# EAGLE library part 10 (library crystal)
Monolithic Crystal Filters Source: www.golledge.com
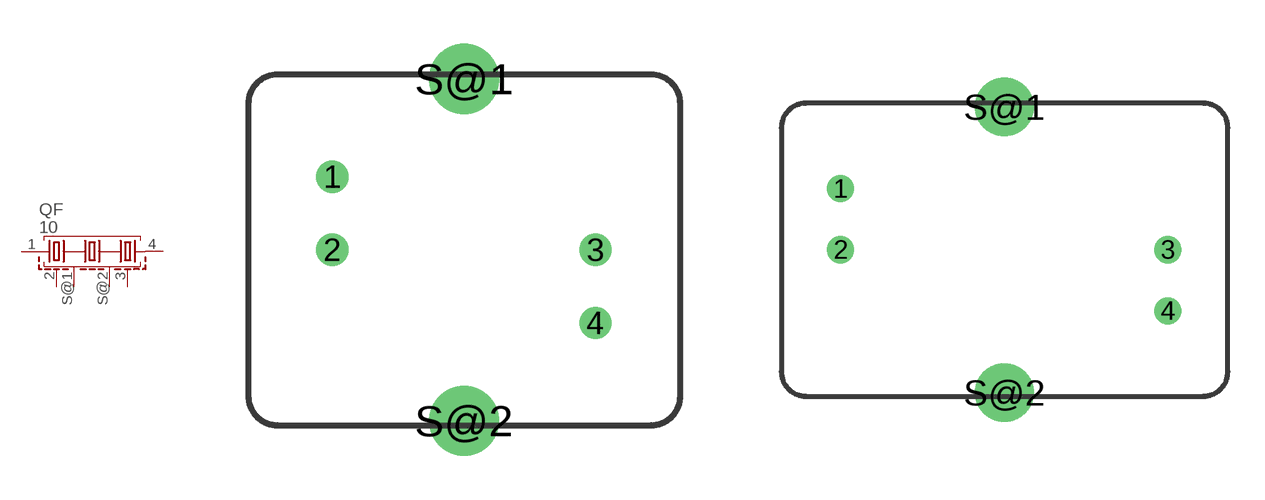
[diagram p2: symbol with the pads of F15/12B; footprints F15/12B, F18/12P]

Designator prefix QF

## 10G7C-12.5KHZ (OC_FARNELL: unknown; OC_NEWARK: unknown)  [F15/12B]
1  1  pas
2  2  pas
3  3  pas
4  4  pas
S@1  S  pas
S@2  S  pas

## 10G7D-12.5KHZ (OC_FARNELL: unknown; OC_NEWARK: unknown)  [F18/12P]
Pads as for F15/12B

## 10G12C-20.0KHZ (OC_FARNELL: unknown; OC_NEWARK: unknown)  [F15/12B]
Pads as for F15/12B

## 10G12D-20.0KHZ (OC_FARNELL: unknown; OC_NEWARK: unknown)  [F18/12P]
Pads as for F15/12B

## 10G15C-25.0KHZ (OC_FARNELL: unknown; OC_NEWARK: unknown)  [F15/12B]
Pads as for F15/12B

## 10G15D-25.0KHZ (OC_FARNELL: unknown; OC_NEWARK: unknown)  [F18/12P]
Pads as for F15/12B

## 10G20C-35.0KHZ (OC_FARNELL: unknown; OC_NEWARK: unknown)  [F15/12B]
Pads as for F15/12B

## 10G20D-35.0KHZ (OC_FARNELL: unknown; OC_NEWARK: unknown)  [F18/12P]
Pads as for F15/12B

## 10G30C-50.0KHZ (OC_FARNELL: unknown; OC_NEWARK: unknown)  [F15/12B]
Pads as for F15/12B

## 10G30D-50.0KHZ (OC_FARNELL: unknown; OC_NEWARK: unknown)  [F18/12P]
Pads as for F15/12B

## Footprint F15/12B (pad centres in mm)
Monolithic Crystal Filters Source: www.golledge.com
drill 0.6 pad 1.016: 1 -4.5,2.5; 2 -4.5,0; 3 4.5,0; 4 4.5,-2.5
drill 1.6 pad 1.93: S@1 0,5.85; S@2 0,-5.85

## Footprint F18/12P (pad centres in mm)
Monolithic Crystal Filters Source: www.golledge.com
drill 0.6 pad 1.016: 1 -6.7,2.5; 2 -6.7,0; 3 6.7,0; 4 6.7,-2.5
drill 1.6 pad 1.93: S@1 0,5.85; S@2 0,-5.85